# Altium footprint library 105133_MOLEX.PcbLib: 1 footprints
Each footprint in its own frame and in the unit in brackets; x right, y up, seen from the top. Pads: shape width x height; smd on the part's side, far side on the other; paste and mask are expansions set on the pad; w line width, h text height; cw(c..) or ccw(c..) is an arc to the next point about the centre after c.
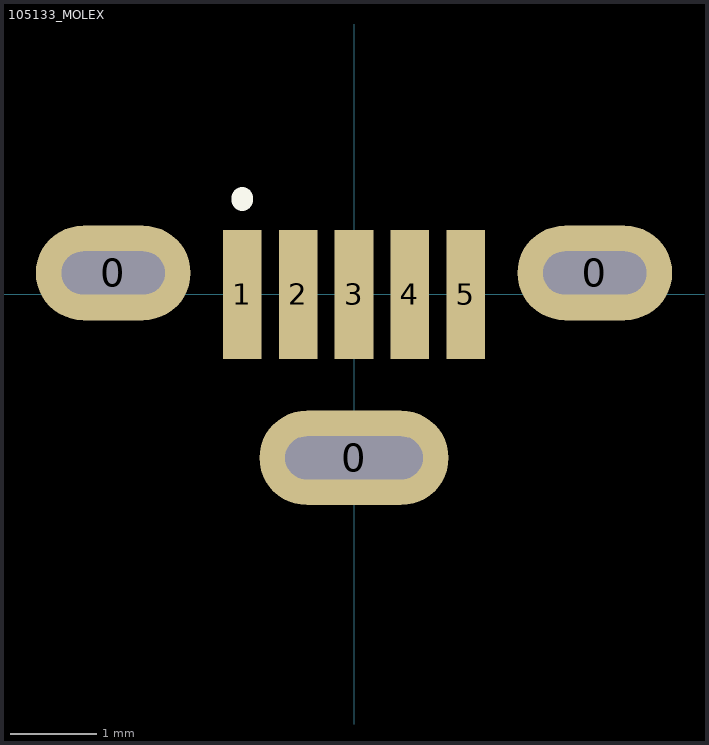
[diagram p0: the footprint, top view; thin cyan lines are the x and y axes]

## 105133_MOLEX [mm]
pads (8):
  oval 1.8x1.1 hole 0.5 slot 1.2 at 0 deg: 0(-2.8,0.25) 0(2.8,0.25)
  oval 2.2x1.1 hole 0.5 slot 1.6 at 0 deg: 0(0,-1.9)
  rect 0.45x1.5 smd mask+0.051: 1(-1.3,0) 2(-0.65,0) 3(0,0) 4(0.65,0) 5(1.3,0)
Top Overlay:
  lines w0.254: -1.3,1.1 -1.3,1.125
3D body: height 7.47, standoff -2.33, extent -4.013,-3.05 4.013,1.4